# EAGLE library part TPS62733EVM-726 (library C3-Modules)
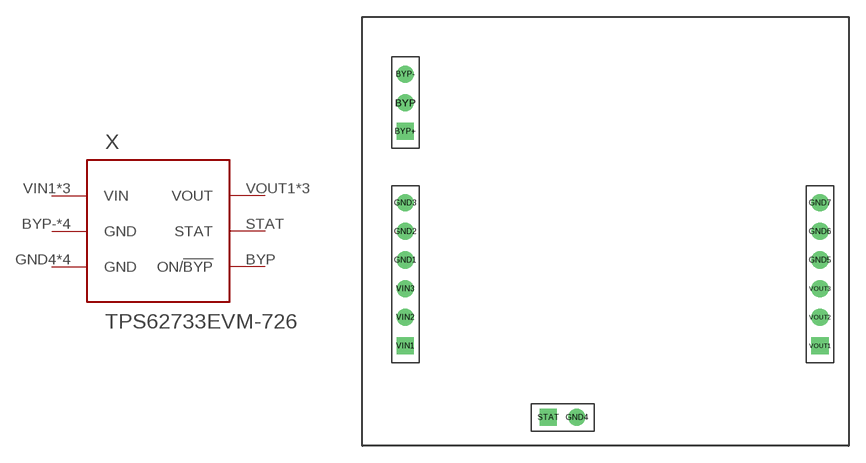
[diagram p3: symbol with the pads of TPS62733EVM-726; footprint TPS62733EVM-726]

Designator prefix X

## TPS62733EVM-726  [TPS62733EVM-726]
BYP  ON/!BYP!  in
BYP-  GND  pas
GND1  GND  pas
GND2  GND  pas
GND3  GND  pas
GND4  GND  pas
GND5  GND  pas
GND6  GND  pas
GND7  GND  pas
STAT  STAT  out
VIN1  VIN  pas
VIN2  VIN  pas
VIN3  VIN  pas
VOUT1  VOUT  pas
VOUT2  VOUT  pas
VOUT3  VOUT  pas

## Footprint TPS62733EVM-726 (pad centres in mm)
drill 1.016: BYP -15.24,15.24; BYP- -15.24,17.78; GND1 -15.24,1.27; GND2 -15.24,3.81; GND3 -15.24,6.35; GND4 0,-12.7; GND5 21.59,1.27; GND6 21.59,3.81; GND7 21.59,6.35; VIN2 -15.24,-3.81; VIN3 -15.24,-1.27; VOUT2 21.59,-3.81; VOUT3 21.59,-1.27
drill 1.016 square: BYP+ -15.24,12.7; STAT -2.54,-12.7; VIN1 -15.24,-6.35; VOUT1 21.59,-6.35